# Altium schematic symbol library BLEFloor.SchLib: 5 symbols
Pins are listed as number, name and electrical type; pins without a type are passive.

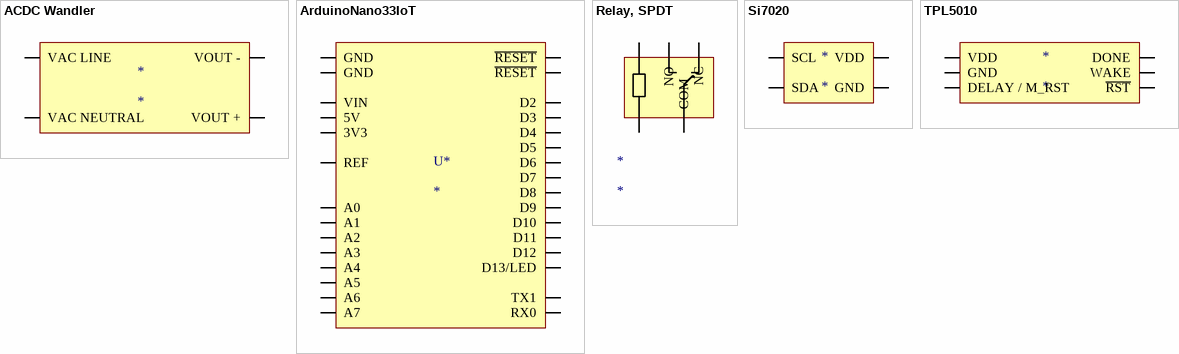
[diagram p0: symbols ACDC Wandler to TPL5010]

## ACDC Wandler
designator *
footprint RAC02-GA (The RAC02-GA series are low cost AC/DC power supplies, ideal for PCB mounted, compact,  board level industrial applications.)
pins: 1 VAC LINE (power), 2 VAC NEUTRAL (power), 3 VOUT - (power), 4 VOUT + (power)

## ArduinoNano33IoT
designator U*
footprint BLENano33IoT
pins: 1 D13/LED (power), 2 3V3 (power), 3 REF (power), 4 A0 (power), 5 A1 (power), 6 A2 (power), 7 A3 (power), 8 A4 (power), 9 A5 (power), 10 A6 (power), 11 A7 (power), 12 5V (power), 13 ~{RESET} (power), 14 GND (power), 15 VIN (power), 16 TX1 (power), 17 RX0 (power), 18 ~{RESET} (power), 19 GND (power), 20 D2 (power), 21 D3 (power), 22 D4 (power), 23 D5 (power), 24 D6 (power), 25 D7 (power), 26 D8 (power), 27 D9 (power), 28 D10 (power), 29 D11 (power), 30 D12 (power)

## Relay, SPDT
designator *
footprint G5LE-14 (Omron Power Relay)
pins: 1 COM (power), 2 COILA (power), 3 NO (power), 4 NC (power), 5 COILB (power)

## Si7020
designator *
footprint 3x3 6pin DFN
pins: 1 SDA (power), 2 GND (power), 5 VDD (power), 6 SCL (power)

## TPL5010
designator *
footprint SOT23-6_L (Footprint not found)
pins: 1 VDD (power), 2 GND (power), 3 DELAY / M_RST (power), 4 DONE (power), 5 WAKE (power), 6 ~{RST} (power)